# EAGLE library part TPS56221-DQPR (library hsk_2012)
TPS56221 is a high-efficiency and high-current synchronous buck converter designed to operate from a supply between 4.5 V and 14 V. The device is capable of producing an output voltage as low as 0.6 V at loads up to 25 A.
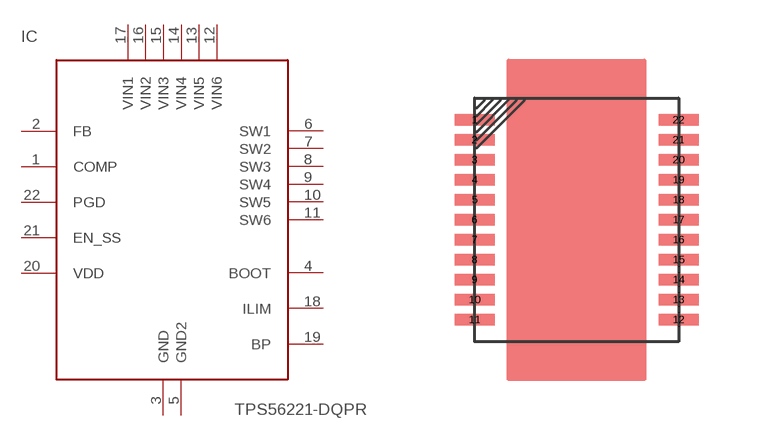
[diagram p9: symbol with the pads of PQFN-22; footprint PQFN-22]

Designator prefix IC

## TPS56221-DQPR_DQP  [PQFN-22]
1  COMP
2  FB
3  GND
4  BOOT
5  GND2
6  SW1
7  SW2
8  SW3
9  SW4
10  SW5
11  SW6
12  VIN6
13  VIN5
14  VIN4
15  VIN3
16  VIN2
17  VIN1
18  ILIM
19  BP
20  VDD
21  EN_SS
22  PGD

## Footprint PQFN-22 (pad centres in mm)
PQFN-22 22- Pin - PowerQuadFlatNoLead TPS56221: The thermal pad is also an electrical ground connection.
smd 1 x 0.28: 1 -2.55,2.5; 2 -2.55,2; 3 -2.55,1.5; 4 -2.55,1; 5 -2.55,0.5; 6 -2.55,0; 7 -2.55,-0.5; 8 -2.55,-1; 9 -2.55,-1.5; 10 -2.55,-2; 11 -2.55,-2.5; 12 2.55,-2.5; 13 2.55,-2; 14 2.55,-1.5; 15 2.55,-1; 16 2.55,-0.5; 17 2.55,0; 18 2.55,0.5; 19 2.55,1; 20 2.55,1.5; 21 2.55,2; 22 2.55,2.5